# EAGLE library part ACS711KEXLT-15AB-T (library SamacSys_Parts)
Hall Effect Linear Current Sensor with Overcurrent Fault Output for <100 V Isolation Applications Source: Datasheet <https://www.arrow.com/en/products/acs711kexlt-15ab-t/allegro-microsystems>
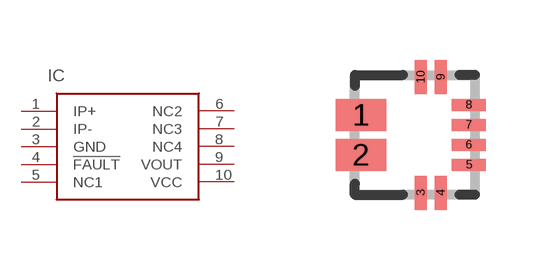
[diagram p0: symbol with the pads of EX-PACKAGE; footprint EX-PACKAGE]

Designator prefix IC

## ACS711KEXLT-15AB-T (ARROW_PART_NUMBER: ACS711KEXLT-15AB-T; DESCRIPTION: Hall Effect Linear Current Sensor with Overcurrent Fault Output for <100 V Isolation Applications; HEIGHT: mm; MANUFACTURER_NAME: Allegro Microsystems; MANUFACTURER_PART_NUMBER: ACS711KEXLT-15AB-T)  [EX-PACKAGE]
1  IP+
2  IP-
3  GND
4  !FAULT
5  NC1
6  NC2
7  NC3
8  NC4
9  VOUT
10  VCC

## Footprint EX-PACKAGE (pad centres in mm)
EX-Package
smd 1.27 x 0.8: 1 -1.35,0.5; 2 -1.35,-0.5
smd 0.3 x 0.85: 3 0.15,-1.45; 4 0.65,-1.45; 9 0.65,1.45; 10 0.15,1.45
smd 0.85 x 0.3: 5 1.35,-0.75; 6 1.35,-0.25; 7 1.35,0.25; 8 1.35,0.75